# Altium schematic symbol library components.SchLib: 2 symbols
Pins are listed as number, name and electrical type; pins without a type are passive.

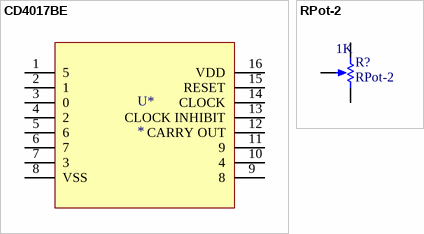
[diagram p0: symbols CD4017BE to RPot-2]

## CD4017BE
designator U*
Decade Counter
footprint N16
pins: 1 5, 2 1, 3 0, 4 2, 5 6, 6 7, 7 3, 8 VSS, 9 8, 10 4, 11 9, 12 CARRY OUT, 13 CLOCK INHIBIT, 14 CLOCK, 15 RESET, 16 VDD

## RPot-2
designator R?  value 1K
Potentiometer; Sim Note: Enter the Resistance value and the set point into parameter fields.; Set Position: 0.5; Published: 8-Jun-2000; LatestRevisionDate: 17-Jul-2002; LatestRevisionNote: Re-released for DXP Platform.; PackageReference: VR5; Publisher: Altium Limited; PackageDescription: Variable Resistor, Thru-Hole; 3 Leads
footprint POT3
simulation model POT (Potentiometer)
pins: 1 TOP, 2 BOT, 3 TAP
1 alternate drawing of the same symbol